# Altium footprint library DC_DC_12V_2W.PcbLib: 1 footprints
Each footprint in its own frame and in the unit in brackets; x right, y up, seen from the top. Pads: shape width x height; smd on the part's side, far side on the other; paste and mask are expansions set on the pad; w line width, h text height; cw(c..) or ccw(c..) is an arc to the next point about the centre after c.
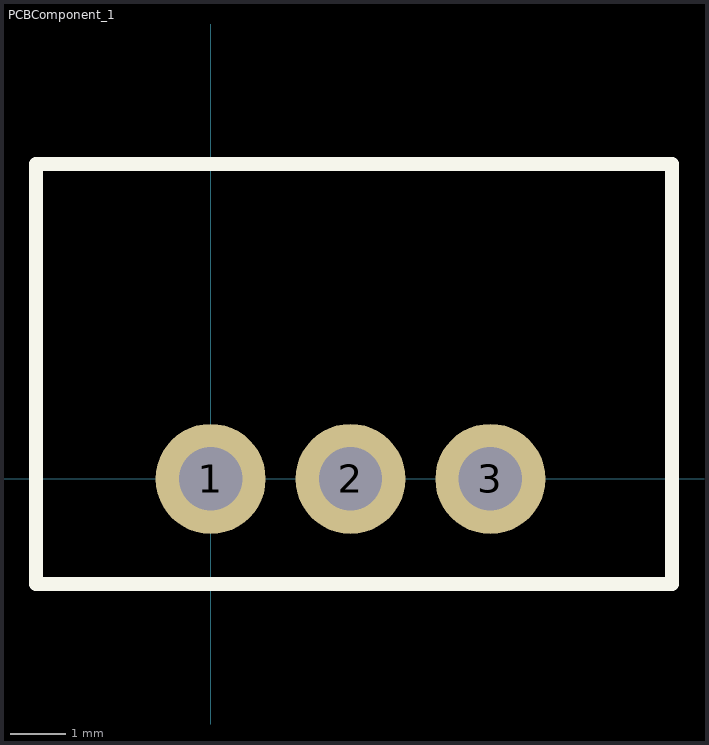
[diagram p0: the footprint, top view; thin cyan lines are the x and y axes]

## PCBComponent_1 [mm]
pads (3):
  round 2 hole 1.15: 1(0,0) 2(2.54,0) 3(5.08,0)
Top Overlay:
  lines w0.254: -3.175,-1.905 -3.175,5.715 -3.048,5.715 8.382,5.715 8.382,-1.905 -3.175,-1.905
3D body "R-78xx-0.5_3D_20160323.stp": height 10.21, standoff -4.09, extent -3.083,-1.885 8.417,5.715